# Altium integrated library Integrated_Library1.IntLib: 1 symbol
Pins are listed as number, name and electrical type; pins without a type are passive.

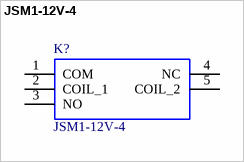
[diagram p0: symbol JSM1-12V-4]

## JSM1-12V-4
designator K?
PANASONIC ELECTRIC WORKS - JSM1-12V-4 - RELAY, AUTOMOTIVE, SPDT, 16VDC, 10A; Allied_Number: 70618207; Manufacturer_Name: Panasonic; Manufacturer_Part_Number: JSM1-12V-4; RS Part Number: *; RS Price/Stock: *; Allied Price/Stock: https://www.alliedelec.com/panasonic-jsm1-12v-4/70618207/; Arrow Part Number: JSM1-12V-4; Arrow Price/Stock: https://www.arrow.com/en/products/jsm1-12v-4/panasonic; Datasheet Link: https://media.digikey.com/pdf/Data%20Sheets/Panasonic%20Electric%20Works%20PDFs/JS-M_Series_Rev_Dec_2011.pdf
footprint JSM112V4
pins: 1 COM, 2 COIL_1, 3 NO, 4 NC, 5 COIL_2